# EAGLE library part BIG_EASY_DRIVER (library SchmalzHausPublic)
Big Easy Driver Microstepping Stepper Motor Driver board from Schmalz Haus http://schmalzhaus.com/BigEasyDriver/
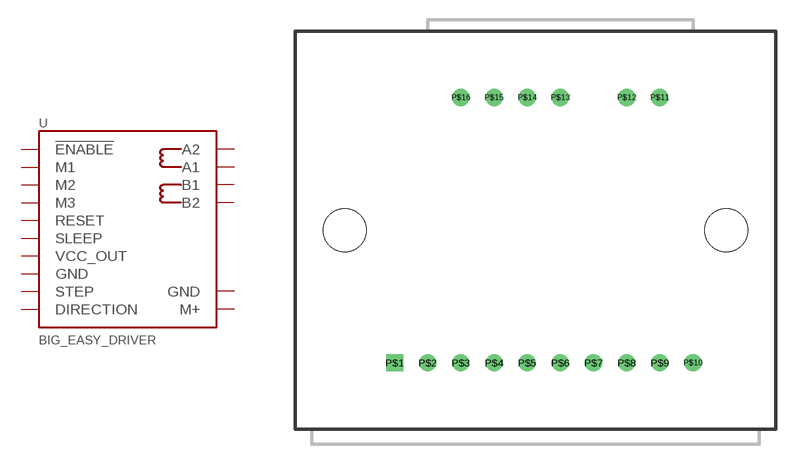
[diagram p2: symbol with the pads of BIG_EASY_DRIVER; footprint BIG_EASY_DRIVER]

Designator prefix -

## BIG_EASY_DRIVER  [BIG_EASY_DRIVER]
P$1  !ENABLE!
P$2  M1
P$3  M2
P$4  M3
P$5  RESET
P$6  SLEEP
P$7  VCC_OUT
P$8  GND
P$9  STEP
P$10  DIRECTION
P$11  M+
P$12  GND
P$13  B2
P$14  B1
P$15  A1
P$16  A2

## Footprint BIG_EASY_DRIVER (pad centres in mm)
drill 0.8 square: P$1 7.62,5.08
drill 0.8: P$2 10.16,5.08; P$3 12.7,5.08; P$4 15.24,5.08; P$5 17.78,5.08; P$6 20.32,5.08; P$7 22.86,5.08; P$8 25.4,5.08; P$9 27.94,5.08; P$10 30.48,5.08; P$11 27.94,25.4; P$12 25.4,25.4; P$13 20.32,25.4; P$14 17.78,25.4; P$15 15.24,25.4; P$16 12.7,25.4
hole 3.302 at 3.81,15.24
hole 3.302 at 33.02,15.24